# Altium footprint library SnapEDApcb.PcbLib: 1 footprints
Each footprint in its own frame and in the unit in brackets; x right, y up, seen from the top. Pads: shape width x height; smd on the part's side, far side on the other; paste and mask are expansions set on the pad; w line width, h text height; cw(c..) or ccw(c..) is an arc to the next point about the centre after c.
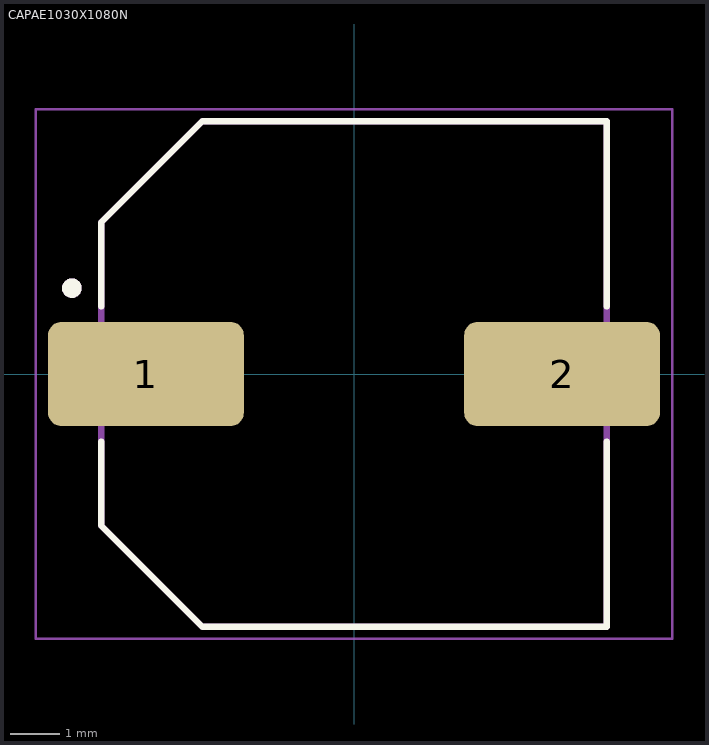
[diagram p0: the footprint, top view; thin cyan lines are the x and y axes]

## CAPAE1030X1080N [mm]
pads (2):
  rrect25% 3.99x2.12 smd: 1(-4.24,0) 2(4.24,0)
Top Overlay:
  circle w0.2: c-5.75,1.75 r0.1
  lines w0.127: -5.15,-1.374 -5.15,-3.09 -3.09,-5.15 5.15,-5.15 5.15,-1.374 ; -5.15,1.374 -5.15,3.09 -3.09,5.15 5.15,5.15 5.15,1.374
Mechanical 13:
  circle w0.2: c-5.75,1.75 r0.1
  lines w0.127: -5.15,-3.09 -3.09,-5.15 5.15,-5.15 5.15,5.15 -3.09,5.15 -5.15,3.09 -5.15,-3.09
Mechanical 15:
  lines w0.05: -6.485,-5.4 6.485,-5.4 6.485,5.4 -6.485,5.4 -6.485,-5.4